# Altium integrated library TI Power Management Lighting and Display.IntLib: 745 symbols (part 36 of 48)
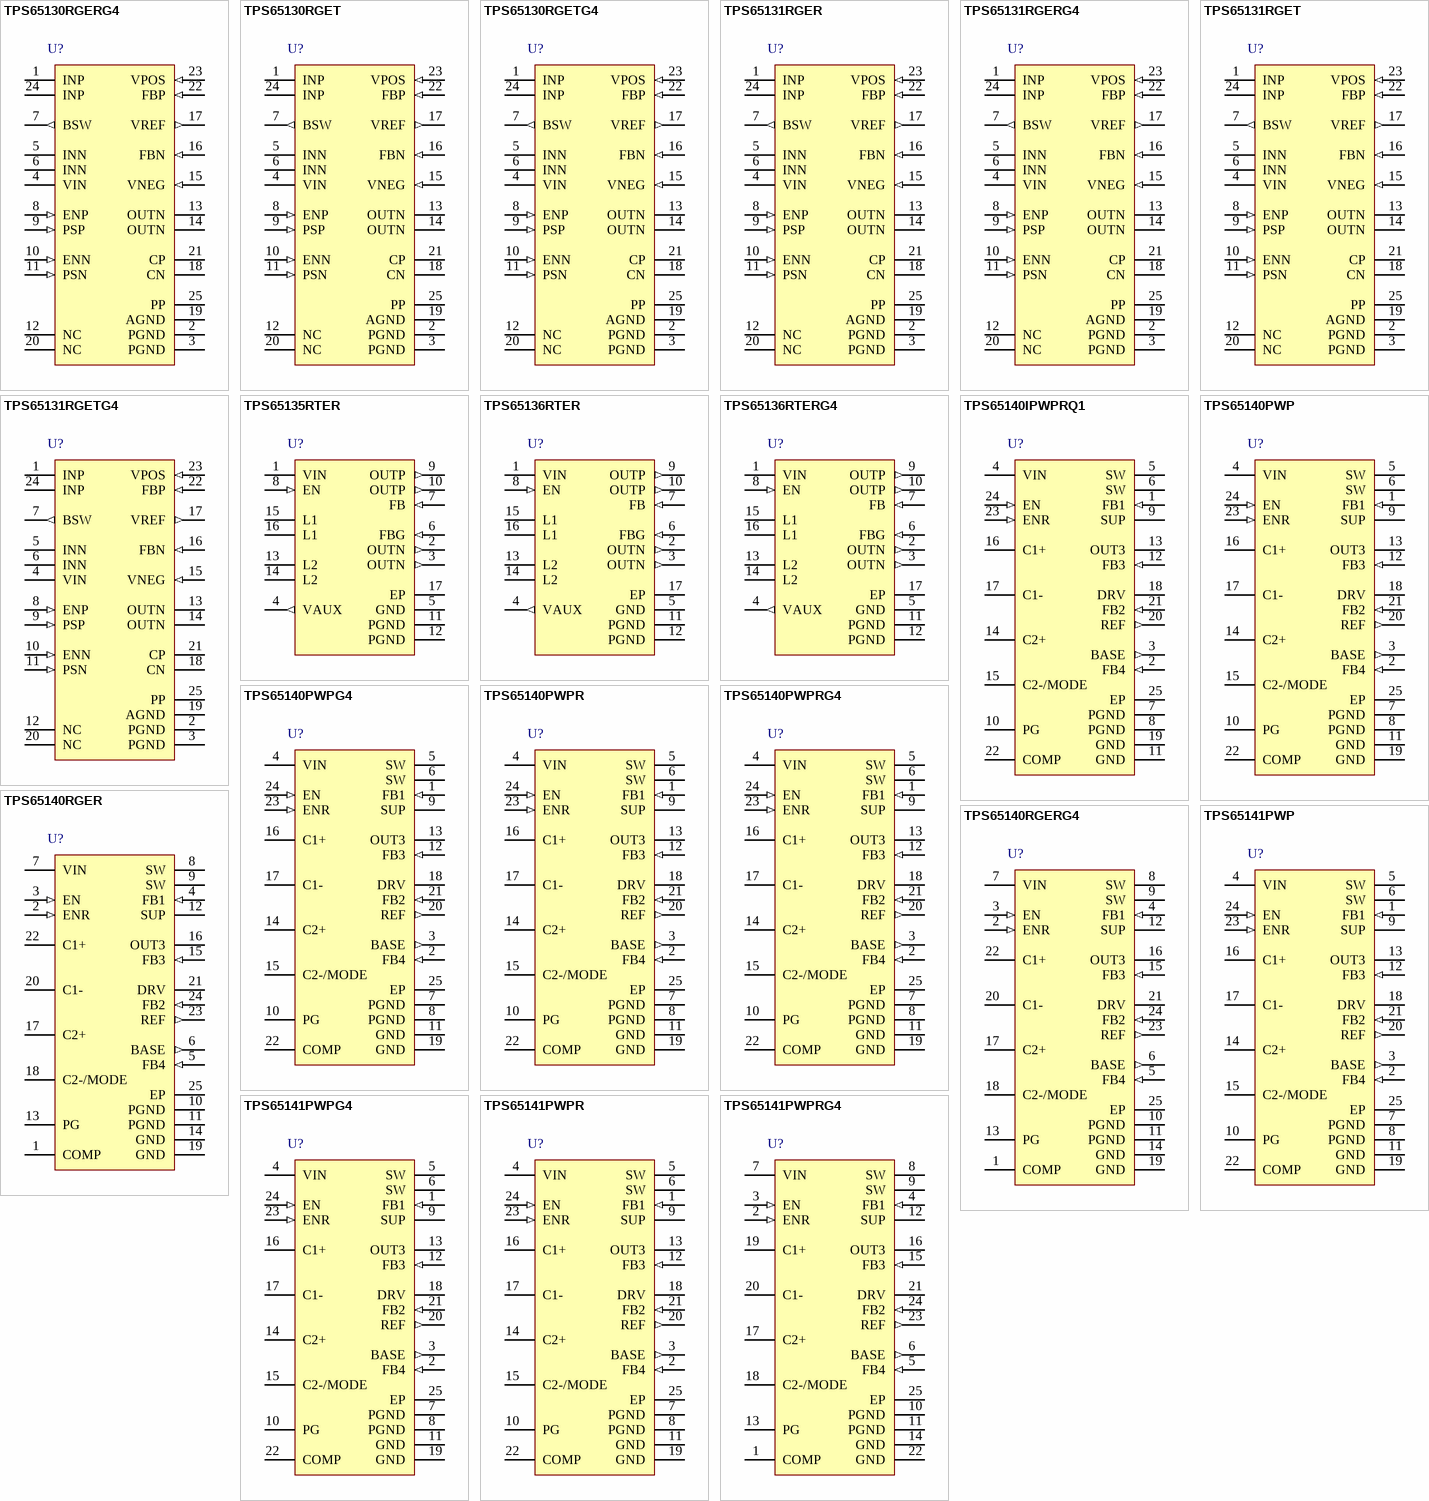
[diagram p66: symbols TPS65130RGERG4 to TPS65141PWPRG4]

## TPS65140RGERG4
designator U?
4-Channel LCD Bias with Fully Integrated Postive Charge Pump, 3.3 V LDO Controller, 2.7 to 5.8 V, -40 to 85 degC, 24-pin QFN (RGE24), Green (RoHS & no Sb/Br); Manufacturer: Texas Instruments; PartNumber: TPS65140RGERG4; Iout(Max)(A): 0.02; Iq(Typ)(mA): 0.7; Rating: Catalog; SubFamily: LCD/OLED Display Bias Solutions; Switching Frequency(Typ)(kHz): 1600; Synchronous Rectification: TRUE; Topology: Boost, Inverting Buck/Boost; Vin(Max)(V): 5.8; Vin(Min)(V): 2.7; DatasheetVersion: SLVS497E; PackageVersion: 4204104/G; PackageReference: RGE24-2450X2450TP; PackageDescription: 24-Pin Plastic Flat Pack, Body 4 x 4 mm, 0.5 mm Pitch; Supplier 1: Digi-Key; Supplier Part Number 1: TPS65140RGERG4-ND; Supplier 2: Mouser; Supplier Part Number 2: 595-TPS65140RGERG4; Eco-Plan: Green (RoHS & no Sb/Br); Mounting Technology: Surface Mount; Code_JEDEC: MO-220; ComponentLink1Description: Manufacturer URL; ComponentLink1URL: http://www.ti.com/; ComponentLink2Description: Datasheet; ComponentLink2URL: http://www.ti.com/general/docs/lit/getliterature.tsp?genericPartNumber=TPS65140&fileType=pdf; ComponentLink3Description: Package Specification; ComponentLink3URL: http://www.ti.com/litv/pdf/mpqf124f
footprint TI-RGE24-2450X2450TP_V (QFN, 24-Leads, Body 4x4mm, Pitch 0.5mm, Thermal Pad 2.45x2.45mm)
pins: 1 COMP "Compensation pin for the main boost converter. A small capacitor is connected to this pin.", 2 ENR (in) "Enable pin of the linear regulator controller. This pin should be terminated and not be left floating. Logic high enables the regulator and a logic low puts the regulator in shutdown.", 3 EN (in) "Enable pin of the device.This pin should be terminated and be left floating.A logic high enables the device and a logic low shuts down the device.", 4 FB1 (in) "Feedback pin of the boost converter", 5 FB4 (in) "Feedback pin the of the linear regulator controller .The linear regulator controller is set to a fixed output voltage of 3.3 V of 3 V depending on the version.", 6 BASE (out) "Base drive output for the external transistor", 7 VIN (power) "Input voltage pin of the device.", 8 SW (power) "Switch pin of the boost converter", 9 SW (power) "Switch pin of the boost converter", 10 PGND (power) "Power ground", 11 PGND (power) "Power ground", 12 SUP (power) "Supply pin of the positive, negative charge pump, boost converter, and gate drive circuit.This pin needs to be connected to the output of the main boots converter and cannot be onnected to any other voltage source.For (See Datasheet)", 13 PG (oc) "Open drain output indicating when all outputs VO1, VO2, VO3 are within 10% of their nominal output voltage. The output goes low when one of the outputs falls below 10% of their nominal output voltage.", 14 GND (power) "Ground", 15 FB3 (in) "Feedback pin of positive charge pump", 16 OUT3 (power) "Positive charge pump output", 17 C2+ "Positive terminal for the charge pump flying capacitor. If the device runs in voltage doubler mode, this pin needs to be left open.", 18 C2-/MODE "Negative terminal of the charge pump flying capacitor and charge pump MODE pin. If the flying capacitor is connected to this pin, the concerter operates in a voltage tripler mode.if the charge pump needs to operate in a (See Datasheet)", 19 GND (power) "Ground", 20 C1- "Negative terminal of the charge pump flying capacitor", 21 DRV (power) "External charge pump driver", 22 C1+ "Positive terminal of the charge pump flying capacitor", 23 REF (out) "Internal reference output typically 1.23 V", 24 FB2 (in) "Feedback pin of negative charge pump", 25 EP (power) "The PowerPAD or exposed thermal die needs to be connected to power ground pins (PGND)"

## TPS65141PWP
designator U?
4-Channel LCD Bias with Fully Integrated Postive Charge Pump, 3.3 V LDO Controller, 2.7 to 5.8 V, -40 to 85 degC, 24-pin SOP (PWP24), Green (RoHS & no Sb/Br); Manufacturer: Texas Instruments; PartNumber: TPS65141PWP; Iout(Max)(A): 0.02; Iq(Typ)(mA): 0.7; Rating: Catalog; SubFamily: LCD/OLED Display Bias Solutions; Switching Frequency(Typ)(kHz): 1600; Topology: Boost, Inverting Buck/Boost; Vin(Max)(V): 5.8; Vin(Min)(V): 2.7; DatasheetVersion: SLVS497E; PackageVersion: 4073225-5/I; PackageReference: PWP24-4420X1950TP; PackageDescription: 24-Lead, Plastic Small Outline, Body Size 4.4 x 7.8 mm, Pitch 0.65 mm; Supplier 1: Digi-Key; Supplier Part Number 1: TPS65141PWP-ND; Supplier 2: Mouser; Supplier Part Number 2: 595-TPS65141PWP; Eco-Plan: Green (RoHS & no Sb/Br); Mounting Technology: Surface Mount; Code_JEDEC: MO-153; ComponentLink1Description: Manufacturer URL; ComponentLink1URL: http://www.ti.com/; ComponentLink2Description: Datasheet; ComponentLink2URL: http://www.ti.com/general/docs/lit/getliterature.tsp?genericPartNumber=TPS65141&fileType=pdf; ComponentLink3Description: Package Specification; ComponentLink3URL: http://www.ti.com/lit/ds/symlink/tps65101.pdf
footprint TI-PWP24-4420X1950TP_N (SOP, 24-Leads, Body 7.8x4.4mm, Pitch 0.65mm, Thermal Pad 4.42x1.95mm, IPC Medium Density)
footprint TI-PWP24-4420X1950TP_L (SOP, 24-Leads, Body 7.8x4.4mm, Pitch 0.65mm, Thermal Pad 4.42x1.95mm, IPC High Density)
footprint TI-PWP24-4420X1950TP_M (SOP, 24-Leads, Body 7.8x4.4mm, Pitch 0.65mm, Thermal Pad 4.42x1.95mm, IPC Low Density)
pins: 1 FB1 (in) "Feedback pin of the boost converter", 2 FB4 (in) "Feedback pin of the linear regulator controller. The linear regulator controller is set to a fixed output voltage of 3.3 V or 3 V depending on the version.", 3 BASE (out) "Base drive output for the external transistor", 4 VIN (power) "Input voltage pin of the device", 5 SW (power) "Switch pin of the boost converter", 6 SW (power) "Switch pin of the boost converter", 7 PGND (power) "Power ground", 8 PGND (power) "Power ground", 9 SUP (power) "Supply pin of the positive, negative charge pump, boost converter, and gate drive circuit. This pin needs to be connected to the output of the main boost converter and cannot be connected to any other voltage source. For (See Datasheet)", 10 PG (oc) "Open drain output indicating when all outputs VO1, VO2, VO3 are within 10% of their nominal output voltage. The output goes low when one of the outputs falls below 10% of their nominal output voltage.", 11 GND (power) "Ground", 12 FB3 (in) "Feedback pin of positive charge pump", 13 OUT3 (power) "Positive charge pump output", 14 C2+ "Positive terminal for the charge pump flying capacitor. If the device runs in voltage doubler mode, this pin needs to be left open.", 15 C2-/MODE "Negative terminal of the charge pump flying capacitor and charge pump MODE pin. If the flying capacitor is connected to this pin, the converter operates in a voltage tripler mode. If the charge pump needs to operate in a (See Datasheet)", 16 C1+ "Positive terminal of the charge pump flying capacitor", 17 C1- "Negative terminal of the charge pump flying capacitor", 18 DRV (power) "External charge pump driver", 19 GND (power) "Ground", 20 REF (out) "Internal reference output typically 1.23 V", 21 FB2 (in) "Feedback pin of negative charge pump", 22 COMP "Compensation pin for the main boost converter. A small capacitor is connected to this pin.", 23 ENR (in) "Enable pin of the linear regulator controller. This pin should be terminated and not be left floating. Logic high enables the regulator and a logic low puts the regulator in shutdown.", 24 EN (in) "Enable pin of the device. This pin should be terminated and not be left floating. A logic high enables the device and a logic low shuts down the device.", 25 EP (power) "The PowerPAD or exposed thermal die needs to be connected to power ground pins (PGND)"

## TPS65141PWPG4
designator U?
4-Channel LCD Bias with Fully Integrated Postive Charge Pump, 3.3 V LDO Controller, 2.7 to 5.8 V, -40 to 85 degC, 24-pin SOP (PWP24), Green (RoHS & no Sb/Br); Manufacturer: Texas Instruments; PartNumber: TPS65141PWPG4; Iout(Max)(A): 0.02; Iq(Typ)(mA): 0.7; Rating: Catalog; SubFamily: LCD/OLED Display Bias Solutions; Switching Frequency(Typ)(kHz): 1600; Topology: Boost, Inverting Buck/Boost; Vin(Max)(V): 5.8; Vin(Min)(V): 2.7; DatasheetVersion: SLVS497E; PackageVersion: 4073225-5/I; PackageReference: PWP24-4420X1950TP; PackageDescription: 24-Lead, Plastic Small Outline, Body Size 4.4 x 7.8 mm, Pitch 0.65 mm; Supplier 1: Digi-Key; Supplier Part Number 1: TPS65141PWPG4-ND; Supplier 2: Mouser; Supplier Part Number 2: 595-TPS65141PWPG4; Eco-Plan: Green (RoHS & no Sb/Br); Mounting Technology: Surface Mount; Code_JEDEC: MO-153; ComponentLink1Description: Manufacturer URL; ComponentLink1URL: http://www.ti.com/; ComponentLink2Description: Datasheet; ComponentLink2URL: http://www.ti.com/general/docs/lit/getliterature.tsp?genericPartNumber=TPS65141&fileType=pdf; ComponentLink3Description: Package Specification; ComponentLink3URL: http://www.ti.com/lit/ds/symlink/tps65101.pdf
footprint TI-PWP24-4420X1950TP_N (SOP, 24-Leads, Body 7.8x4.4mm, Pitch 0.65mm, Thermal Pad 4.42x1.95mm, IPC Medium Density)
footprint TI-PWP24-4420X1950TP_L (SOP, 24-Leads, Body 7.8x4.4mm, Pitch 0.65mm, Thermal Pad 4.42x1.95mm, IPC High Density)
footprint TI-PWP24-4420X1950TP_M (SOP, 24-Leads, Body 7.8x4.4mm, Pitch 0.65mm, Thermal Pad 4.42x1.95mm, IPC Low Density)
pins: 1 FB1 (in) "Feedback pin of the boost converter", 2 FB4 (in) "Feedback pin of the linear regulator controller. The linear regulator controller is set to a fixed output voltage of 3.3 V or 3 V depending on the version.", 3 BASE (out) "Base drive output for the external transistor", 4 VIN (power) "Input voltage pin of the device", 5 SW (power) "Switch pin of the boost converter", 6 SW (power) "Switch pin of the boost converter", 7 PGND (power) "Power ground", 8 PGND (power) "Power ground", 9 SUP (power) "Supply pin of the positive, negative charge pump, boost converter, and gate drive circuit. This pin needs to be connected to the output of the main boost converter and cannot be connected to any other voltage source. For (See Datasheet)", 10 PG (oc) "Open drain output indicating when all outputs VO1, VO2, VO3 are within 10% of their nominal output voltage. The output goes low when one of the outputs falls below 10% of their nominal output voltage.", 11 GND (power) "Ground", 12 FB3 (in) "Feedback pin of positive charge pump", 13 OUT3 (power) "Positive charge pump output", 14 C2+ "Positive terminal for the charge pump flying capacitor. If the device runs in voltage doubler mode, this pin needs to be left open.", 15 C2-/MODE "Negative terminal of the charge pump flying capacitor and charge pump MODE pin. If the flying capacitor is connected to this pin, the converter operates in a voltage tripler mode. If the charge pump needs to operate in a (See Datasheet)", 16 C1+ "Positive terminal of the charge pump flying capacitor", 17 C1- "Negative terminal of the charge pump flying capacitor", 18 DRV (power) "External charge pump driver", 19 GND (power) "Ground", 20 REF (out) "Internal reference output typically 1.23 V", 21 FB2 (in) "Feedback pin of negative charge pump", 22 COMP "Compensation pin for the main boost converter. A small capacitor is connected to this pin.", 23 ENR (in) "Enable pin of the linear regulator controller. This pin should be terminated and not be left floating. Logic high enables the regulator and a logic low puts the regulator in shutdown.", 24 EN (in) "Enable pin of the device. This pin should be terminated and not be left floating. A logic high enables the device and a logic low shuts down the device.", 25 EP (power) "The PowerPAD or exposed thermal die needs to be connected to power ground pins (PGND)"

## TPS65141PWPR
designator U?
4-Channel LCD Bias with Fully Integrated Postive Charge Pump, 3.3 V LDO Controller, 2.7 to 5.8 V, -40 to 85 degC, 24-pin SOP (PWP24), Green (RoHS & no Sb/Br); Manufacturer: Texas Instruments; PartNumber: TPS65141PWPR; Iout(Max)(A): 0.02; Iq(Typ)(mA): 0.7; Rating: Catalog; SubFamily: LCD/OLED Display Bias Solutions; Switching Frequency(Typ)(kHz): 1600; Topology: Boost, Inverting Buck/Boost; Vin(Max)(V): 5.8; Vin(Min)(V): 2.7; DatasheetVersion: SLVS497E; PackageVersion: 4073225-5/I; PackageReference: PWP24-4420X1950TP; PackageDescription: 24-Lead, Plastic Small Outline, Body Size 4.4 x 7.8 mm, Pitch 0.65 mm; Supplier 1: Digi-Key; Supplier Part Number 1: 296-19713-2-ND; Supplier 2: Digi-Key; Supplier Part Number 2: 296-19713-1-ND; Supplier 3: Digi-Key; Supplier Part Number 3: 296-19713-6-ND; Supplier 4: Newark; Supplier Part Number 4: 99K4424; Supplier 5: Mouser; Supplier Part Number 5: 595-TPS65141PWPR; Eco-Plan: Green (RoHS & no Sb/Br); Mounting Technology: Surface Mount; Code_JEDEC: MO-153; ComponentLink1Description: Manufacturer URL; ComponentLink1URL: http://www.ti.com/; ComponentLink2Description: Datasheet; ComponentLink2URL: http://www.ti.com/general/docs/lit/getliterature.tsp?genericPartNumber=TPS65141&fileType=pdf; ComponentLink3Description: Package Specification; ComponentLink3URL: http://www.ti.com/lit/ds/symlink/tps65101.pdf
footprint TI-PWP24-4420X1950TP_N (SOP, 24-Leads, Body 7.8x4.4mm, Pitch 0.65mm, Thermal Pad 4.42x1.95mm, IPC Medium Density)
footprint TI-PWP24-4420X1950TP_L (SOP, 24-Leads, Body 7.8x4.4mm, Pitch 0.65mm, Thermal Pad 4.42x1.95mm, IPC High Density)
footprint TI-PWP24-4420X1950TP_M (SOP, 24-Leads, Body 7.8x4.4mm, Pitch 0.65mm, Thermal Pad 4.42x1.95mm, IPC Low Density)
pins: 1 FB1 (in) "Feedback pin of the boost converter", 2 FB4 (in) "Feedback pin of the linear regulator controller. The linear regulator controller is set to a fixed output voltage of 3.3 V or 3 V depending on the version.", 3 BASE (out) "Base drive output for the external transistor", 4 VIN (power) "Input voltage pin of the device", 5 SW (power) "Switch pin of the boost converter", 6 SW (power) "Switch pin of the boost converter", 7 PGND (power) "Power ground", 8 PGND (power) "Power ground", 9 SUP (power) "Supply pin of the positive, negative charge pump, boost converter, and gate drive circuit. This pin needs to be connected to the output of the main boost converter and cannot be connected to any other voltage source. For (See Datasheet)", 10 PG (oc) "Open drain output indicating when all outputs VO1, VO2, VO3 are within 10% of their nominal output voltage. The output goes low when one of the outputs falls below 10% of their nominal output voltage.", 11 GND (power) "Ground", 12 FB3 (in) "Feedback pin of positive charge pump", 13 OUT3 (power) "Positive charge pump output", 14 C2+ "Positive terminal for the charge pump flying capacitor. If the device runs in voltage doubler mode, this pin needs to be left open.", 15 C2-/MODE "Negative terminal of the charge pump flying capacitor and charge pump MODE pin. If the flying capacitor is connected to this pin, the converter operates in a voltage tripler mode. If the charge pump needs to operate in a (See Datasheet)", 16 C1+ "Positive terminal of the charge pump flying capacitor", 17 C1- "Negative terminal of the charge pump flying capacitor", 18 DRV (power) "External charge pump driver", 19 GND (power) "Ground", 20 REF (out) "Internal reference output typically 1.23 V", 21 FB2 (in) "Feedback pin of negative charge pump", 22 COMP "Compensation pin for the main boost converter. A small capacitor is connected to this pin.", 23 ENR (in) "Enable pin of the linear regulator controller. This pin should be terminated and not be left floating. Logic high enables the regulator and a logic low puts the regulator in shutdown.", 24 EN (in) "Enable pin of the device. This pin should be terminated and not be left floating. A logic high enables the device and a logic low shuts down the device.", 25 EP (power) "The PowerPAD or exposed thermal die needs to be connected to power ground pins (PGND)"

## TPS65141PWPRG4
designator U?
4-Channel LCD Bias with Fully Integrated Postive Charge Pump, 3.3 V LDO Controller, 2.7 to 5.8 V, -40 to 85 degC, 24-pin SOP (PWP24), Green (RoHS & no Sb/Br); Manufacturer: Texas Instruments; PartNumber: TPS65141PWPRG4; Iout(Max)(A): 0.02; Iq(Typ)(mA): 0.7; Rating: Catalog; SubFamily: LCD/OLED Display Bias Solutions; Switching Frequency(Typ)(kHz): 1600; Topology: Boost, Inverting Buck/Boost; Vin(Max)(V): 5.8; Vin(Min)(V): 2.7; DatasheetVersion: SLVS497E; PackageVersion: 4073225-5/I; PackageReference: PWP24-4420X1950TP; PackageDescription: 24-Lead, Plastic Small Outline, Body Size 4.4 x 7.8 mm, Pitch 0.65 mm; Supplier 1: Digi-Key; Supplier Part Number 1: TPS65141PWPRG4-ND; Supplier 2: Mouser; Supplier Part Number 2: 595-TPS65141PWPRG4; Eco-Plan: Green (RoHS & no Sb/Br); Mounting Technology: Surface Mount; Code_JEDEC: MO-153; ComponentLink1Description: Manufacturer URL; ComponentLink1URL: http://www.ti.com/; ComponentLink2Description: Datasheet; ComponentLink2URL: http://www.ti.com/general/docs/lit/getliterature.tsp?genericPartNumber=TPS65141&fileType=pdf; ComponentLink3Description: Package Specification; ComponentLink3URL: http://www.ti.com/lit/ds/symlink/tps65101.pdf
footprint TI-PWP24-4420X1950TP_N (SOP, 24-Leads, Body 7.8x4.4mm, Pitch 0.65mm, Thermal Pad 4.42x1.95mm, IPC Medium Density)
footprint TI-PWP24-4420X1950TP_L (SOP, 24-Leads, Body 7.8x4.4mm, Pitch 0.65mm, Thermal Pad 4.42x1.95mm, IPC High Density)
footprint TI-PWP24-4420X1950TP_M (SOP, 24-Leads, Body 7.8x4.4mm, Pitch 0.65mm, Thermal Pad 4.42x1.95mm, IPC Low Density)
pins: 1 COMP "Compensation pin for the main boost converter. A small capacitor is connected to this pin.", 2 ENR (in) "Enable pin of the linear regulator controller. This pin should be terminated and not be left floating. Logic high enables the regulator and a logic low puts the regulator in shutdown.", 3 EN (in) "Enable pin of the device. This pin should be terminated and not be left floating. A logic high enables the device and a logic low shuts down the device.", 4 FB1 (in) "Feedback pin of the boost converter", 5 FB4 (in) "Feedback pin of the linear regulator controller. The linear regulator controller is set to a fixed output voltage of 3.3 V or 3 V depending on the version.", 6 BASE (out) "Base drive output for the external transistor", 7 VIN (power) "Input voltage pin of the device", 8 SW (power) "Switch pin of the boost converter", 9 SW (power) "Switch pin of the boost converter", 10 PGND (power) "Power ground", 11 PGND (power) "Power ground", 12 SUP (power) "Supply pin of the positive, negative charge pump, boost converter, and gate drive circuit. This pin needs to be connected to the output of the main boost converter and cannot be connected to any other voltage source. For (See Datasheet)", 13 PG (oc) "Open drain output indicating when all outputs VO1, VO2, VO3 are within 10% of their nominal output voltage. The output goes low when one of the outputs falls below 10% of their nominal output voltage.", 14 GND (power) "Ground", 15 FB3 (in) "Feedback pin of positive charge pump", 16 OUT3 (power) "Positive charge pump output", 17 C2+ "Positive terminal for the charge pump flying capacitor. If the device runs in voltage doubler mode, this pin needs to be left open.", 18 C2-/MODE "Negative terminal of the charge pump flying capacitor and charge pump MODE pin. If the flying capacitor is connected to this pin, the converter operates in a voltage tripler mode. If the charge pump needs to operate in a (See Datasheet)", 19 C1+ "Positive terminal of the charge pump flying capacitor", 20 C1- "Negative terminal of the charge pump flying capacitor", 21 DRV (power) "External charge pump driver", 22 GND (power) "Ground", 23 REF (out) "Internal reference output typically 1.23 V", 24 FB2 (in) "Feedback pin of negative charge pump", 25 EP (power) "The PowerPAD or exposed thermal die needs to be connected to power ground pins (PGND)"

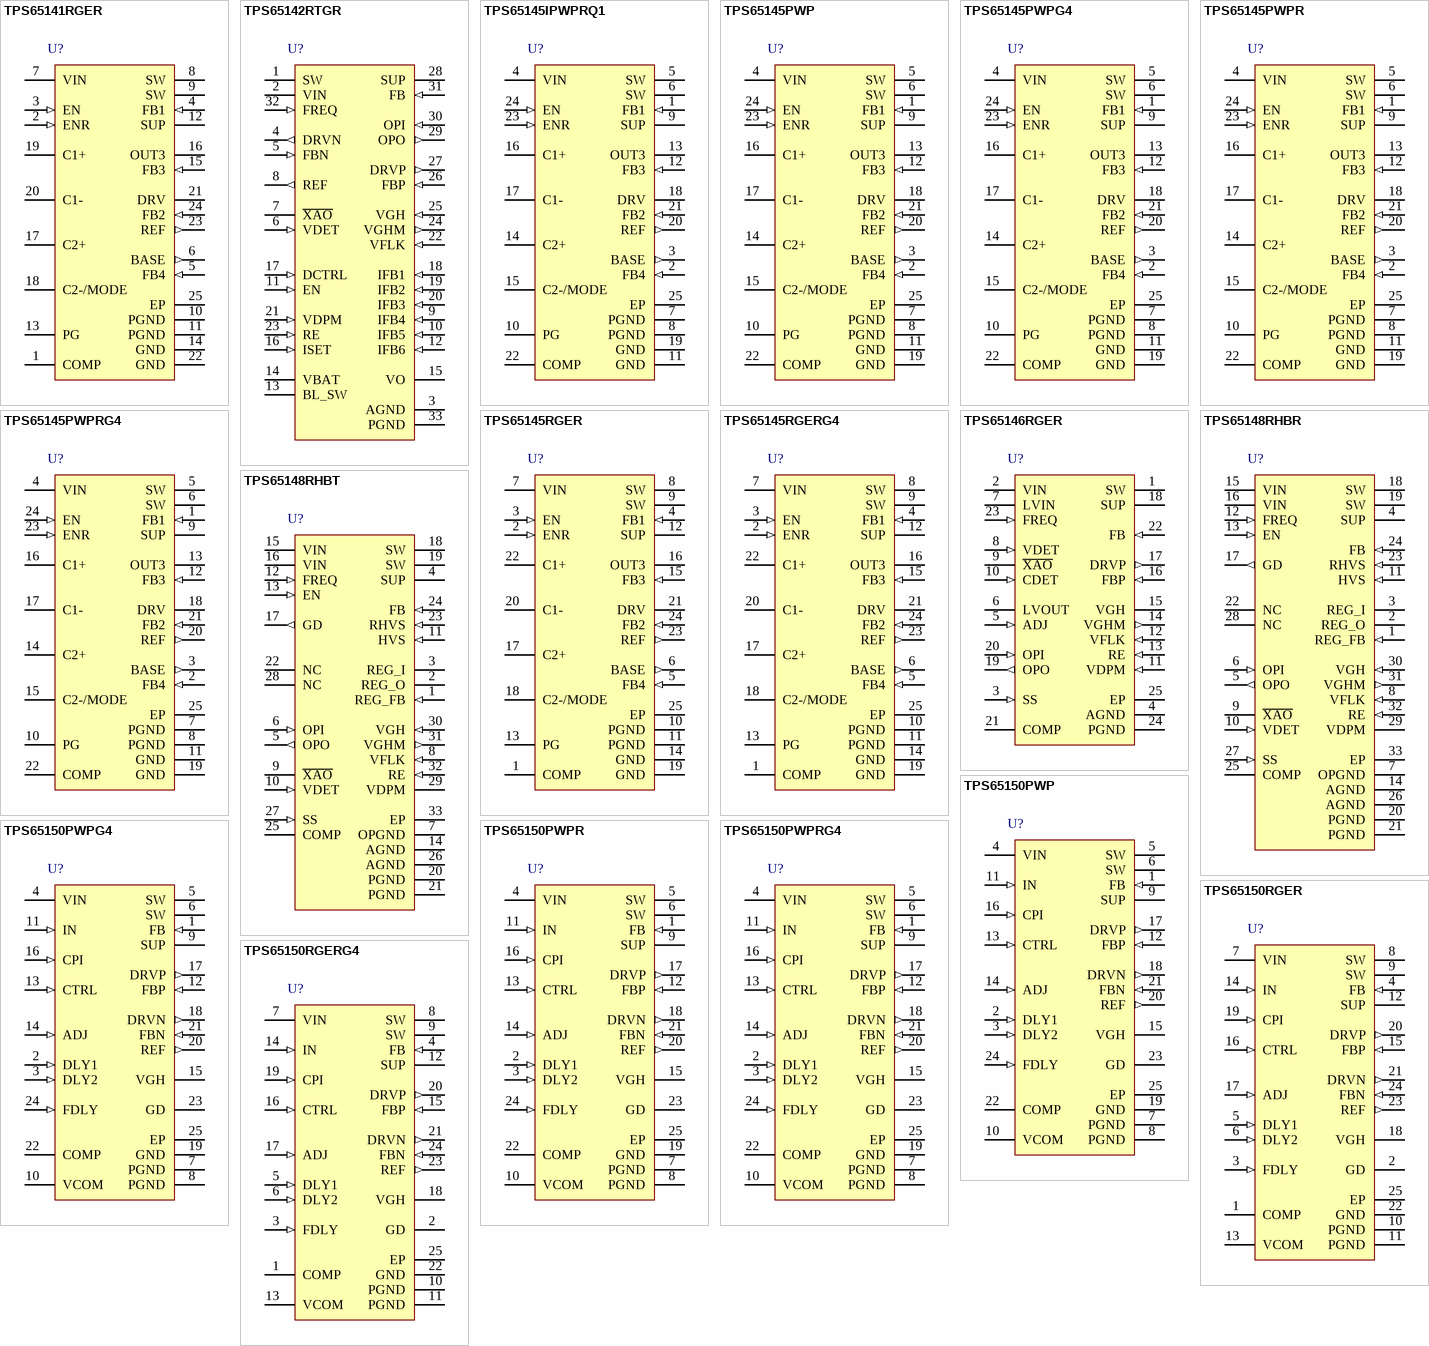
[diagram p23: symbols TPS65141RGER to TPS65150RGERG4]

## TPS65141RGER
designator U?
4-Channel LCD Bias with Fully Integrated Postive Charge Pump, 3.3 V LDO Controller, 2.7 to 5.8 V, -40 to 85 degC, 24-pin QFN (RGE24), Green (RoHS & no Sb/Br); Manufacturer: Texas Instruments; PartNumber: TPS65141RGER; Iout(Max)(A): 0.02; Iq(Typ)(mA): 0.7; Rating: Catalog; SubFamily: LCD/OLED Display Bias Solutions; Switching Frequency(Typ)(kHz): 1600; Topology: Boost, Inverting Buck/Boost; Vin(Max)(V): 5.8; Vin(Min)(V): 2.7; DatasheetVersion: SLVS497E; PackageVersion: 4204104/G; PackageReference: RGE24-2450X2450TP; PackageDescription: 24-Pin Plastic Flat Pack, Body 4 x 4 mm, 0.5 mm Pitch; Supplier 1: Digi-Key; Supplier Part Number 1: 296-19714-2-ND; Supplier 2: Digi-Key; Supplier Part Number 2: 296-19714-1-ND; Supplier 3: Digi-Key; Supplier Part Number 3: 296-19714-6-ND; Supplier 4: Mouser; Supplier Part Number 4: 595-TPS65141RGER; Eco-Plan: Green (RoHS & no Sb/Br); Mounting Technology: Surface Mount; Code_JEDEC: MO-220; ComponentLink1Description: Manufacturer URL; ComponentLink1URL: http://www.ti.com/; ComponentLink2Description: Datasheet; ComponentLink2URL: http://www.ti.com/general/docs/lit/getliterature.tsp?genericPartNumber=TPS65141&fileType=pdf; ComponentLink3Description: Package Specification; ComponentLink3URL: http://www.ti.com/litv/pdf/mpqf124f
footprint TI-RGE24-2450X2450TP_V (QFN, 24-Leads, Body 4x4mm, Pitch 0.5mm, Thermal Pad 2.45x2.45mm)
pins: 1 COMP "Compensation pin for the main boost converter. A small capacitor is connected to this pin.", 2 ENR (in) "Enable pin of the linear regulator controller. This pin should be terminated and not be left floating. Logic high enables the regulator and a logic low puts the regulator in shutdown.", 3 EN (in) "Enable pin of the device. This pin should be terminated and not be left floating. A logic high enables the device and a logic low shuts down the device.", 4 FB1 (in) "Feedback pin of the boost converter", 5 FB4 (in) "Feedback pin of the linear regulator controller. The linear regulator controller is set to a fixed output voltage of 3.3 V or 3 V depending on the version.", 6 BASE (out) "Base drive output for the external transistor", 7 VIN (power) "Input voltage pin of the device", 8 SW (power) "Switch pin of the boost converter", 9 SW (power) "Switch pin of the boost converter", 10 PGND (power) "Power ground", 11 PGND (power) "Power ground", 12 SUP (power) "Supply pin of the positive, negative charge pump, boost converter, and gate drive circuit. This pin needs to be connected to the output of the main boost converter and cannot be connected to any other voltage source. For (See Datasheet)", 13 PG (oc) "Open drain output indicating when all outputs VO1, VO2, VO3 are within 10% of their nominal output voltage. The output goes low when one of the outputs falls below 10% of their nominal output voltage.", 14 GND (power) "Ground", 15 FB3 (in) "Feedback pin of positive charge pump", 16 OUT3 (power) "Positive charge pump output", 17 C2+ "Positive terminal for the charge pump flying capacitor. If the device runs in voltage doubler mode, this pin needs to be left open.", 18 C2-/MODE "Negative terminal of the charge pump flying capacitor and charge pump MODE pin. If the flying capacitor is connected to this pin, the converter operates in a voltage tripler mode. If the charge pump needs to operate in a (See Datasheet)", 19 C1+ "Positive terminal of the charge pump flying capacitor", 20 C1- "Negative terminal of the charge pump flying capacitor", 21 DRV (power) "External charge pump driver", 22 GND (power) "Ground", 23 REF (out) "Internal reference output typically 1.23 V", 24 FB2 (in) "Feedback pin of negative charge pump", 25 EP (power) "The PowerPAD or exposed thermal die needs to be connected to power ground pins (PGND)"

## TPS65142RTGR
designator U?
LCD Bias Solution For LCD Panels with 6-Channel WLED Driver, 2.3 to 6 V, -40 to 85 degC, 32-pin QFN (RTG32), Green (RoHS & no Sb/Br); Manufacturer: Texas Instruments; PartNumber: TPS65142RTGR; Rating: Catalog; SubFamily: LCD/OLED Display Bias Solutions; Switching Frequency(Typ)(kHz): 650 to 1200; Topology: Boost; Vin(Max)(V): 6; Vin(Min)(V): 2.3; DatasheetVersion: SLVSAX5A; PackageVersion: 4210467/B; PackageReference: RTG32-4950X1950TP; PackageDescription: 32-Lead, Plastic Flat Pack, Body Size 3 x 6 mm, Pitch 0.4 mm; Supplier 1: Digi-Key; Supplier Part Number 1: 296-29205-2-ND; Supplier 2: Digi-Key; Supplier Part Number 2: 296-29205-1-ND; Supplier 3: Digi-Key; Supplier Part Number 3: 296-29205-6-ND; Supplier 4: Mouser; Supplier Part Number 4: 595-TPS65142RTGR; Eco-Plan: Green (RoHS & no Sb/Br); Mounting Technology: Surface Mount; Code_JEDEC: MO-220; ComponentLink1Description: Manufacturer URL; ComponentLink1URL: http://www.ti.com/; ComponentLink2Description: Datasheet; ComponentLink2URL: http://www.ti.com/general/docs/lit/getliterature.tsp?genericPartNumber=TPS65142&fileType=pdf; ComponentLink3Description: Package Specification; ComponentLink3URL: http://www.ti.com/litv/pdf/mpqf247a
footprint TI-RTG32-4950X1950TP_V (QFN, 32-Leads, Body 6x3mm, Pitch 0.4mm, Thermal Pad 4.95x1.95mm)
pins: 1 SW (power) "Switch pin of the AVDD boost converter", 2 VIN (power) "Input supply pin", 3 AGND (power) "Analog ground", 4 DRVN (out) "Voltage driver of the negative charge pump", 5 FBN (in) "Negative charge pump feedback pin", 6 VDET (in) "Reset IC threshold pin (Voltage divider)", 7 ~{XAO} (oc) "Reset IC output pulling down X\A\O\ pin when active.", 8 REF (out) "Reference voltage for the negative charge pump", 9 IFB4 (in) "Channel 4 of the WLED backlight current sink", 10 IFB5 (in) "Channel 5 of the WLED backlight current sink", 11 EN (in) "Backlight enable input", 12 IFB6 (in) "Channel 6 of the WLED backlight current sink", 13 BL_SW (power) "The backlight boost converter switching node", 14 VBAT (power) "Input of the backlight boost converter", 15 VO (power) "The output of the backlight boost converter", 16 ISET (in) "WLED current sink level programming input", 17 DCTRL (in) "Backlight PWM dimming control input", 18 IFB1 (in) "Channel 1 of the WLED backlight current sink", 19 IFB2 (in) "Channel 2 of the WLED backlight current sink", 20 IFB3 (in) "Channel 3 of the WLED backlight current sink", 21 VDPM (in) "Sets the delay to enable VGHM Output. Pin for external capacitor. Floating if no delay needed", 22 VFLK (in) "Charge/discharge signal for VGHM", 23 RE (in) "Sets the slope for the gate shaping function. Pin for external Resistor", 24 VGHM (out) "Output for gate-high modulation", 25 VGH (in) "Input for positive Charge Pump", 26 FBP (in) "Positive charge pump feedback pin", 27 DRVP (out) "Voltage driver of positive charge pump", 28 SUP (power) "Supply pin of the gate shaping and operational amplifier blocks. Connected as well to the overvoltage protection comparator. This pin needs to be connected to the output of the AVDD boost converter.", 29 OPO (out) "Output voltage of VCOM Buffer", 30 OPI (in) "Input voltage of VCOM Buffer", 31 FB (in) "AVDD Boost converter feedback pin", 32 FREQ (in) "AVDD boost converter switching frequency selection: 1.2MHz when V(FREQ) = VIN and 650 kHz when V(FREQ) =ground", 33 PGND (power) "Exposed pad that serves as the power ground for both boost converters"

## TPS65145IPWPRQ1
designator U?
Automotive Catalog 4-Channel Power Supply for LCD Monitor with Fault Detection (5V), 2.7 to 5.8 V, -40 to 85 degC, 24-pin SOP (PWP24), Green (RoHS & no Sb/Br); Manufacturer: Texas Instruments; PartNumber: TPS65145IPWPRQ1; Iout(Max)(A): 0.02; Iq(Typ)(mA): 3.9; SubFamily: LCD/OLED Display Bias Solutions; Switching Frequency(Typ)(kHz): 1600; Topology: Boost, Inverting Buck/Boost; Vin(Max)(V): 5.8; Vin(Min)(V): 2.7; DatasheetVersion: SGLS277A; PackageVersion: 4073225-5/I; PackageReference: PWP24-4420X1950TP; PackageDescription: 24-Lead, Plastic Small Outline, Body Size 4.4 x 7.8 mm, Pitch 0.65 mm; Supplier 1: Digi-Key; Supplier Part Number 1: 296-24084-2-ND; Supplier 2: Digi-Key; Supplier Part Number 2: 296-24084-1-ND; Supplier 3: Digi-Key; Supplier Part Number 3: 296-24084-6-ND; Supplier 4: Newark; Supplier Part Number 4: 71J8221; Supplier 5: Mouser; Supplier Part Number 5: 595-TPS65145IPWPRQ1; Eco-Plan: Green (RoHS & no Sb/Br); Rating: Automotive; Mounting Technology: Surface Mount; Code_JEDEC: MO-153; ComponentLink1Description: Manufacturer URL; ComponentLink1URL: http://www.ti.com/; ComponentLink2Description: Datasheet; ComponentLink2URL: http://www.ti.com/general/docs/lit/getliterature.tsp?genericPartNumber=TPS65145-Q1&fileType=pdf; ComponentLink3Description: Package Specification; ComponentLink3URL: http://www.ti.com/lit/ds/symlink/tps65101.pdf
footprint TI-PWP24-4420X1950TP_N (SOP, 24-Leads, Body 7.8x4.4mm, Pitch 0.65mm, Thermal Pad 4.42x1.95mm, IPC Medium Density)
footprint TI-PWP24-4420X1950TP_L (SOP, 24-Leads, Body 7.8x4.4mm, Pitch 0.65mm, Thermal Pad 4.42x1.95mm, IPC High Density)
footprint TI-PWP24-4420X1950TP_M (SOP, 24-Leads, Body 7.8x4.4mm, Pitch 0.65mm, Thermal Pad 4.42x1.95mm, IPC Low Density)
pins: 1 FB1 (in) "Feedback pin of the boost converter", 2 FB4 (in) "Feedback pin the of the linear regulator controller .The linear regulator controller is set to a fixed output voltage of 3.3 V of 3 V depending on the version.", 3 BASE (out) "Base drive output for the external transistor", 4 VIN (power) "Input voltage pin of the device.", 5 SW (power) "Switch pin of the boost converter", 6 SW (power) "Switch pin of the boost converter", 7 PGND (power) "Power ground", 8 PGND (power) "Power ground", 9 SUP (power) "Supply pin of the positive, negative charge pump, boost converter, and gate drive circuit.This pin needs to be connected to the output of the main boots converter and cannot be onnected to any other voltage source.For (See Datasheet)", 10 PG (oc) "Open drain output indicating when all outputs VO1, VO2, VO3 are within 10% of their nominal output voltage. The output goes low when one of the outputs falls below 10% of their nominal output voltage.", 11 GND (power) "Ground", 12 FB3 (in) "Feedback pin of positive charge pump", 13 OUT3 (power) "Positive charge pump output", 14 C2+ "Positive terminal for the charge pump flying capacitor. If the device runs in voltage doubler mode, this pin needs to be left open.", 15 C2-/MODE "Negative terminal of the charge pump flying capacitor and charge pump MODE pin. If the flying capacitor is connected to this pin, the concerter operates in a voltage tripler mode.if the charge pump needs to operate in a (See Datasheet)", 16 C1+ "Positive terminal of the charge pump flying capacitor", 17 C1- "Negative terminal of the charge pump flying capacitor", 18 DRV (power) "External charge pump driver", 19 GND (power) "Ground", 20 REF (out) "Internal reference output typically 1.23 V", 21 FB2 (in) "Feedback pin of negative charge pump", 22 COMP "Compensation pin for the main boost converter. A small capacitor is connected to this pin.", 23 ENR (in) "Enable pin of the linear regulator controller. This pin should be terminated and not be left floating. Logic high enables the regulator and a logic low puts the regulator in shutdown.", 24 EN (in) "Enable pin of the device.This pin should be terminated and be left floating.A logic high enables the device and a logic low shuts down the device.", 25 EP (power) "The PowerPAD or exposed thermal die needs to be connected to power ground pins (PGND)"

## TPS65145PWP
designator U?
4-Channel LCD Bias with Fully Integrated Postive Charge Pump, 3.3 V LDO Controller, 2.7 to 5.8 V, -40 to 85 degC, 24-pin SOP (PWP24), Green (RoHS & no Sb/Br); Manufacturer: Texas Instruments; PartNumber: TPS65145PWP; Iout(Max)(A): 0.02; Iq(Typ)(mA): 0.7; Rating: Catalog; SubFamily: LCD/OLED Display Bias Solutions; Switching Frequency(Typ)(kHz): 1600; Topology: Boost, Inverting Buck/Boost; Vin(Max)(V): 5.8; Vin(Min)(V): 2.7; DatasheetVersion: SLVS497E; PackageVersion: 4073225-5/I; PackageReference: PWP24-4420X1950TP; PackageDescription: 24-Lead, Plastic Small Outline, Body Size 4.4 x 7.8 mm, Pitch 0.65 mm; Supplier 1: Digi-Key; Supplier Part Number 1: TPS65145PWP-ND; Supplier 2: Mouser; Supplier Part Number 2: 595-TPS65145PWP; Eco-Plan: Green (RoHS & no Sb/Br); Mounting Technology: Surface Mount; Code_JEDEC: MO-153; ComponentLink1Description: Manufacturer URL; ComponentLink1URL: http://www.ti.com/; ComponentLink2Description: Datasheet; ComponentLink2URL: http://www.ti.com/general/docs/lit/getliterature.tsp?genericPartNumber=TPS65145&fileType=pdf; ComponentLink3Description: Package Specification; ComponentLink3URL: http://www.ti.com/lit/ds/symlink/tps65101.pdf
footprint TI-PWP24-4420X1950TP_N (SOP, 24-Leads, Body 7.8x4.4mm, Pitch 0.65mm, Thermal Pad 4.42x1.95mm, IPC Medium Density)
footprint TI-PWP24-4420X1950TP_L (SOP, 24-Leads, Body 7.8x4.4mm, Pitch 0.65mm, Thermal Pad 4.42x1.95mm, IPC High Density)
footprint TI-PWP24-4420X1950TP_M (SOP, 24-Leads, Body 7.8x4.4mm, Pitch 0.65mm, Thermal Pad 4.42x1.95mm, IPC Low Density)
pins: 1 FB1 (in) "Feedback pin of the boost converter", 2 FB4 (in) "Feedback pin the of the linear regulator controller .The linear regulator controller is set to a fixed output voltage of 3.3 V of 3 V depending on the version.", 3 BASE (out) "Base drive output for the external transistor", 4 VIN (power) "Input voltage pin of the device.", 5 SW (power) "Switch pin of the boost converter", 6 SW (power) "Switch pin of the boost converter", 7 PGND (power) "Power ground", 8 PGND (power) "Power ground", 9 SUP (power) "Supply pin of the positive, negative charge pump, boost converter, and gate drive circuit.This pin needs to be connected to the output of the main boots converter and cannot be onnected to any other voltage source.For (See Datasheet)", 10 PG (oc) "Open drain output indicating when all outputs VO1, VO2, VO3 are within 10% of their nominal output voltage. The output goes low when one of the outputs falls below 10% of their nominal output voltage.", 11 GND (power) "Ground", 12 FB3 (in) "Feedback pin of positive charge pump", 13 OUT3 (power) "Positive charge pump output", 14 C2+ "Positive terminal for the charge pump flying capacitor. If the device runs in voltage doubler mode, this pin needs to be left open.", 15 C2-/MODE "Negative terminal of the charge pump flying capacitor and charge pump MODE pin. If the flying capacitor is connected to this pin, the concerter operates in a voltage tripler mode.if the charge pump needs to operate in a (See Datasheet)", 16 C1+ "Positive terminal of the charge pump flying capacitor", 17 C1- "Negative terminal of the charge pump flying capacitor", 18 DRV (power) "External charge pump driver", 19 GND (power) "Ground", 20 REF (out) "Internal reference output typically 1.23 V", 21 FB2 (in) "Feedback pin of negative charge pump", 22 COMP "Compensation pin for the main boost converter. A small capacitor is connected to this pin.", 23 ENR (in) "Enable pin of the linear regulator controller. This pin should be terminated and not be left floating. Logic high enables the regulator and a logic low puts the regulator in shutdown.", 24 EN (in) "Enable pin of the device.This pin should be terminated and be left floating.A logic high enables the device and a logic low shuts down the device.", 25 EP (power) "The PowerPAD or exposed thermal die needs to be connected to power ground pins (PGND)"

## TPS65145PWPG4
designator U?
4-Channel LCD Bias with Fully Integrated Postive Charge Pump, 3.3 V LDO Controller, 2.7 to 5.8 V, -40 to 85 degC, 24-pin SOP (PWP24), Green (RoHS & no Sb/Br); Manufacturer: Texas Instruments; PartNumber: TPS65145PWPG4; Iout(Max)(A): 0.02; Iq(Typ)(mA): 0.7; Rating: Catalog; SubFamily: LCD/OLED Display Bias Solutions; Switching Frequency(Typ)(kHz): 1600; Topology: Boost, Inverting Buck/Boost; Vin(Max)(V): 5.8; Vin(Min)(V): 2.7; DatasheetVersion: SLVS497E; PackageVersion: 4073225-5/I; PackageReference: PWP24-4420X1950TP; PackageDescription: 24-Lead, Plastic Small Outline, Body Size 4.4 x 7.8 mm, Pitch 0.65 mm; Supplier 1: Digi-Key; Supplier Part Number 1: TPS65145PWPG4-ND; Supplier 2: Mouser; Supplier Part Number 2: 595-TPS65145PWPG4; Eco-Plan: Green (RoHS & no Sb/Br); Mounting Technology: Surface Mount; Code_JEDEC: MO-153; ComponentLink1Description: Manufacturer URL; ComponentLink1URL: http://www.ti.com/; ComponentLink2Description: Datasheet; ComponentLink2URL: http://www.ti.com/general/docs/lit/getliterature.tsp?genericPartNumber=TPS65145&fileType=pdf; ComponentLink3Description: Package Specification; ComponentLink3URL: http://www.ti.com/lit/ds/symlink/tps65101.pdf
footprint TI-PWP24-4420X1950TP_N (SOP, 24-Leads, Body 7.8x4.4mm, Pitch 0.65mm, Thermal Pad 4.42x1.95mm, IPC Medium Density)
footprint TI-PWP24-4420X1950TP_L (SOP, 24-Leads, Body 7.8x4.4mm, Pitch 0.65mm, Thermal Pad 4.42x1.95mm, IPC High Density)
footprint TI-PWP24-4420X1950TP_M (SOP, 24-Leads, Body 7.8x4.4mm, Pitch 0.65mm, Thermal Pad 4.42x1.95mm, IPC Low Density)
pins: 1 FB1 (in) "Feedback pin of the boost converter", 2 FB4 (in) "Feedback pin the of the linear regulator controller .The linear regulator controller is set to a fixed output voltage of 3.3 V of 3 V depending on the version.", 3 BASE (out) "Base drive output for the external transistor", 4 VIN (power) "Input voltage pin of the device.", 5 SW (power) "Switch pin of the boost converter", 6 SW (power) "Switch pin of the boost converter", 7 PGND (power) "Power ground", 8 PGND (power) "Power ground", 9 SUP (power) "Supply pin of the positive, negative charge pump, boost converter, and gate drive circuit.This pin needs to be connected to the output of the main boots converter and cannot be onnected to any other voltage source.For (See Datasheet)", 10 PG (oc) "Open drain output indicating when all outputs VO1, VO2, VO3 are within 10% of their nominal output voltage. The output goes low when one of the outputs falls below 10% of their nominal output voltage.", 11 GND (power) "Ground", 12 FB3 (in) "Feedback pin of positive charge pump", 13 OUT3 (power) "Positive charge pump output", 14 C2+ "Positive terminal for the charge pump flying capacitor. If the device runs in voltage doubler mode, this pin needs to be left open.", 15 C2-/MODE "Negative terminal of the charge pump flying capacitor and charge pump MODE pin. If the flying capacitor is connected to this pin, the concerter operates in a voltage tripler mode.if the charge pump needs to operate in a (See Datasheet)", 16 C1+ "Positive terminal of the charge pump flying capacitor", 17 C1- "Negative terminal of the charge pump flying capacitor", 18 DRV (power) "External charge pump driver", 19 GND (power) "Ground", 20 REF (out) "Internal reference output typically 1.23 V", 21 FB2 (in) "Feedback pin of negative charge pump", 22 COMP "Compensation pin for the main boost converter. A small capacitor is connected to this pin.", 23 ENR (in) "Enable pin of the linear regulator controller. This pin should be terminated and not be left floating. Logic high enables the regulator and a logic low puts the regulator in shutdown.", 24 EN (in) "Enable pin of the device.This pin should be terminated and be left floating.A logic high enables the device and a logic low shuts down the device.", 25 EP (power) "The PowerPAD or exposed thermal die needs to be connected to power ground pins (PGND)"

## TPS65145PWPR
designator U?
4-Channel LCD Bias with Fully Integrated Postive Charge Pump, 3.3 V LDO Controller, 2.7 to 5.8 V, -40 to 85 degC, 24-pin SOP (PWP24), Green (RoHS & no Sb/Br); Manufacturer: Texas Instruments; PartNumber: TPS65145PWPR; Iout(Max)(A): 0.02; Iq(Typ)(mA): 0.7; Rating: Catalog; SubFamily: LCD/OLED Display Bias Solutions; Switching Frequency(Typ)(kHz): 1600; Topology: Boost, Inverting Buck/Boost; Vin(Max)(V): 5.8; Vin(Min)(V): 2.7; DatasheetVersion: SLVS497E; PackageVersion: 4073225-5/I; PackageReference: PWP24-4420X1950TP; PackageDescription: 24-Lead, Plastic Small Outline, Body Size 4.4 x 7.8 mm, Pitch 0.65 mm; Supplier 1: Digi-Key; Supplier Part Number 1: 296-19000-2-ND; Supplier 2: Digi-Key; Supplier Part Number 2: 296-19000-1-ND; Supplier 3: Digi-Key; Supplier Part Number 3: 296-19000-6-ND; Supplier 4: Mouser; Supplier Part Number 4: 595-TPS65145PWPR; Eco-Plan: Green (RoHS & no Sb/Br); Mounting Technology: Surface Mount; Code_JEDEC: MO-153; ComponentLink1Description: Manufacturer URL; ComponentLink1URL: http://www.ti.com/; ComponentLink2Description: Datasheet; ComponentLink2URL: http://www.ti.com/general/docs/lit/getliterature.tsp?genericPartNumber=TPS65145&fileType=pdf; ComponentLink3Description: Package Specification; ComponentLink3URL: http://www.ti.com/lit/ds/symlink/tps65101.pdf
footprint TI-PWP24-4420X1950TP_N (SOP, 24-Leads, Body 7.8x4.4mm, Pitch 0.65mm, Thermal Pad 4.42x1.95mm, IPC Medium Density)
footprint TI-PWP24-4420X1950TP_L (SOP, 24-Leads, Body 7.8x4.4mm, Pitch 0.65mm, Thermal Pad 4.42x1.95mm, IPC High Density)
footprint TI-PWP24-4420X1950TP_M (SOP, 24-Leads, Body 7.8x4.4mm, Pitch 0.65mm, Thermal Pad 4.42x1.95mm, IPC Low Density)
pins: 1 FB1 (in) "Feedback pin of the boost converter", 2 FB4 (in) "Feedback pin the of the linear regulator controller .The linear regulator controller is set to a fixed output voltage of 3.3 V of 3 V depending on the version.", 3 BASE (out) "Base drive output for the external transistor", 4 VIN (power) "Input voltage pin of the device.", 5 SW (power) "Switch pin of the boost converter", 6 SW (power) "Switch pin of the boost converter", 7 PGND (power) "Power ground", 8 PGND (power) "Power ground", 9 SUP (power) "Supply pin of the positive, negative charge pump, boost converter, and gate drive circuit.This pin needs to be connected to the output of the main boots converter and cannot be onnected to any other voltage source.For (See Datasheet)", 10 PG (oc) "Open drain output indicating when all outputs VO1, VO2, VO3 are within 10% of their nominal output voltage. The output goes low when one of the outputs falls below 10% of their nominal output voltage.", 11 GND (power) "Ground", 12 FB3 (in) "Feedback pin of positive charge pump", 13 OUT3 (power) "Positive charge pump output", 14 C2+ "Positive terminal for the charge pump flying capacitor. If the device runs in voltage doubler mode, this pin needs to be left open.", 15 C2-/MODE "Negative terminal of the charge pump flying capacitor and charge pump MODE pin. If the flying capacitor is connected to this pin, the concerter operates in a voltage tripler mode.if the charge pump needs to operate in a (See Datasheet)", 16 C1+ "Positive terminal of the charge pump flying capacitor", 17 C1- "Negative terminal of the charge pump flying capacitor", 18 DRV (power) "External charge pump driver", 19 GND (power) "Ground", 20 REF (out) "Internal reference output typically 1.23 V", 21 FB2 (in) "Feedback pin of negative charge pump", 22 COMP "Compensation pin for the main boost converter. A small capacitor is connected to this pin.", 23 ENR (in) "Enable pin of the linear regulator controller. This pin should be terminated and not be left floating. Logic high enables the regulator and a logic low puts the regulator in shutdown.", 24 EN (in) "Enable pin of the device.This pin should be terminated and be left floating.A logic high enables the device and a logic low shuts down the device.", 25 EP (power) "The PowerPAD or exposed thermal die needs to be connected to power ground pins (PGND)"

## TPS65145PWPRG4
designator U?
4-Channel LCD Bias with Fully Integrated Postive Charge Pump, 3.3 V LDO Controller, 2.7 to 5.8 V, -40 to 85 degC, 24-pin SOP (PWP24), Green (RoHS & no Sb/Br); Manufacturer: Texas Instruments; PartNumber: TPS65145PWPRG4; Iout(Max)(A): 0.02; Iq(Typ)(mA): 0.7; Rating: Catalog; SubFamily: LCD/OLED Display Bias Solutions; Switching Frequency(Typ)(kHz): 1600; Topology: Boost, Inverting Buck/Boost; Vin(Max)(V): 5.8; Vin(Min)(V): 2.7; DatasheetVersion: SLVS497E; PackageVersion: 4073225-5/I; PackageReference: PWP24-4420X1950TP; PackageDescription: 24-Lead, Plastic Small Outline, Body Size 4.4 x 7.8 mm, Pitch 0.65 mm; Supplier 1: Digi-Key; Supplier Part Number 1: TPS65145PWPRG4-ND; Supplier 2: Mouser; Supplier Part Number 2: 595-TPS65145PWPRG4; Eco-Plan: Green (RoHS & no Sb/Br); Mounting Technology: Surface Mount; Code_JEDEC: MO-153; ComponentLink1Description: Manufacturer URL; ComponentLink1URL: http://www.ti.com/; ComponentLink2Description: Datasheet; ComponentLink2URL: http://www.ti.com/general/docs/lit/getliterature.tsp?genericPartNumber=TPS65145&fileType=pdf; ComponentLink3Description: Package Specification; ComponentLink3URL: http://www.ti.com/lit/ds/symlink/tps65101.pdf
footprint TI-PWP24-4420X1950TP_N (SOP, 24-Leads, Body 7.8x4.4mm, Pitch 0.65mm, Thermal Pad 4.42x1.95mm, IPC Medium Density)
footprint TI-PWP24-4420X1950TP_L (SOP, 24-Leads, Body 7.8x4.4mm, Pitch 0.65mm, Thermal Pad 4.42x1.95mm, IPC High Density)
footprint TI-PWP24-4420X1950TP_M (SOP, 24-Leads, Body 7.8x4.4mm, Pitch 0.65mm, Thermal Pad 4.42x1.95mm, IPC Low Density)
pins: 1 FB1 (in) "Feedback pin of the boost converter", 2 FB4 (in) "Feedback pin the of the linear regulator controller .The linear regulator controller is set to a fixed output voltage of 3.3 V of 3 V depending on the version.", 3 BASE (out) "Base drive output for the external transistor", 4 VIN (power) "Input voltage pin of the device.", 5 SW (power) "Switch pin of the boost converter", 6 SW (power) "Switch pin of the boost converter", 7 PGND (power) "Power ground", 8 PGND (power) "Power ground", 9 SUP (power) "Supply pin of the positive, negative charge pump, boost converter, and gate drive circuit.This pin needs to be connected to the output of the main boots converter and cannot be onnected to any other voltage source.For (See Datasheet)", 10 PG (oc) "Open drain output indicating when all outputs VO1, VO2, VO3 are within 10% of their nominal output voltage. The output goes low when one of the outputs falls below 10% of their nominal output voltage.", 11 GND (power) "Ground", 12 FB3 (in) "Feedback pin of positive charge pump", 13 OUT3 (power) "Positive charge pump output", 14 C2+ "Positive terminal for the charge pump flying capacitor. If the device runs in voltage doubler mode, this pin needs to be left open.", 15 C2-/MODE "Negative terminal of the charge pump flying capacitor and charge pump MODE pin. If the flying capacitor is connected to this pin, the concerter operates in a voltage tripler mode.if the charge pump needs to operate in a (See Datasheet)", 16 C1+ "Positive terminal of the charge pump flying capacitor", 17 C1- "Negative terminal of the charge pump flying capacitor", 18 DRV (power) "External charge pump driver", 19 GND (power) "Ground", 20 REF (out) "Internal reference output typically 1.23 V", 21 FB2 (in) "Feedback pin of negative charge pump", 22 COMP "Compensation pin for the main boost converter. A small capacitor is connected to this pin.", 23 ENR (in) "Enable pin of the linear regulator controller. This pin should be terminated and not be left floating. Logic high enables the regulator and a logic low puts the regulator in shutdown.", 24 EN (in) "Enable pin of the device.This pin should be terminated and be left floating.A logic high enables the device and a logic low shuts down the device.", 25 EP (power) "The PowerPAD or exposed thermal die needs to be connected to power ground pins (PGND)"